# EAGLE library part LM2574HVM-3.3/NOPB (library boat_light)
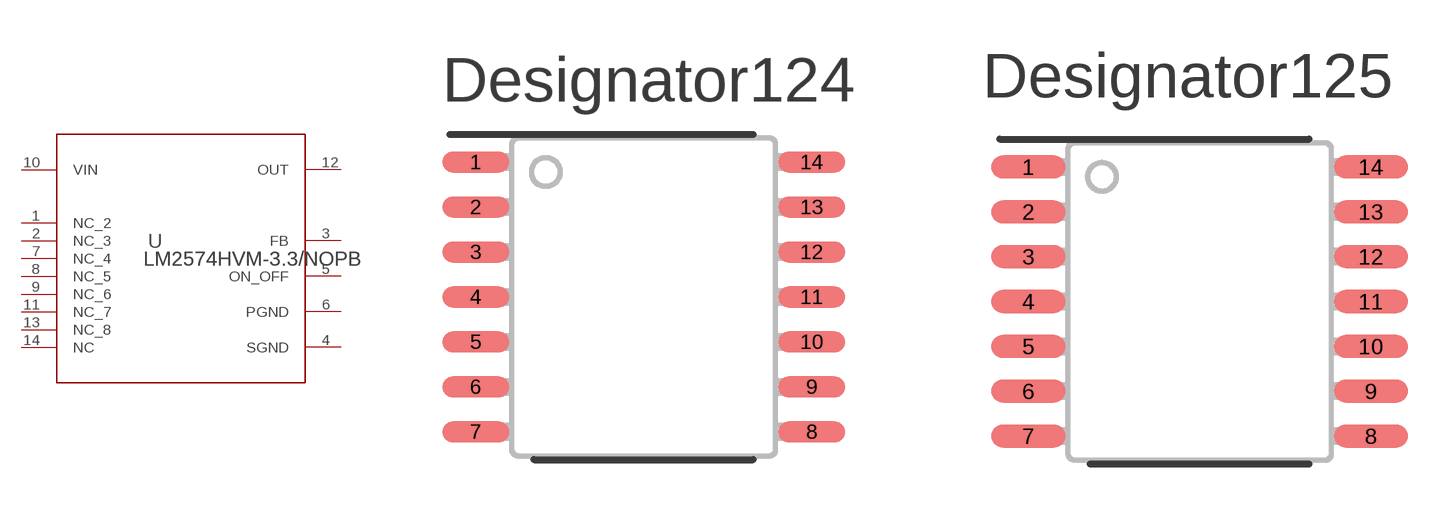
[diagram p0: symbol with the pads of NPA0014B_N; footprints NPA0014B_N, NPA0014B_M]

Designator prefix U

## LM2574HVM-3.3/NOPB (COPYRIGHT: Copyright (C) 2022 Ultra Librarian. All rights reserved.; DIGI-KEY_PART_NUMBER_1: LM2574HVM-3.3/NOPB-ND; DIGI-KEY_PART_NUMBER_2: 2156-LM2574HVM-3.3/NOPB-ND; MANUFACTURER_PART_NUMBER: LM2574HVM-3.3/NOPB; MFR_NAME: Texas Instruments; REFDES: RefDes; TYPE: TYPE)  [NPA0014B_N]
1  NC_2  pas
2  NC_3  pas
3  FB  in
4  SGND  pwr
5  ON_OFF  in
6  PGND  pwr
7  NC_4  pas
8  NC_5  pas
9  NC_6  pas
10  VIN  pwr
11  NC_7  pas
12  OUT  pwr
13  NC_8  pas
14  NC  pas

## LM2574HVM-3.3/NOPBNPA0014B_M (COPYRIGHT: Copyright (C) 2022 Ultra Librarian. All rights reserved.; DIGI-KEY_PART_NUMBER_1: LM2574HVM-3.3/NOPB-ND; DIGI-KEY_PART_NUMBER_2: 2156-LM2574HVM-3.3/NOPB-ND; MANUFACTURER_PART_NUMBER: LM2574HVM-3.3/NOPB; MFR_NAME: Texas Instruments; REFDES: RefDes; TYPE: TYPE)  [NPA0014B_M]
Pads as for NPA0014B_N

## LM2574HVM-3.3/NOPBNPA0014B_L (COPYRIGHT: Copyright (C) 2022 Ultra Librarian. All rights reserved.; DIGI-KEY_PART_NUMBER_1: LM2574HVM-3.3/NOPB-ND; DIGI-KEY_PART_NUMBER_2: 2156-LM2574HVM-3.3/NOPB-ND; MANUFACTURER_PART_NUMBER: LM2574HVM-3.3/NOPB; MFR_NAME: Texas Instruments; REFDES: RefDes; TYPE: TYPE)  [NPA0014B_L]
Pads as for NPA0014B_N

## Footprint NPA0014B_N (pad centres in mm)
smd 1.9 x 0.6: 1 -4.75,3.81; 2 -4.75,2.54; 3 -4.75,1.27; 4 -4.75,0; 5 -4.75,-1.27; 6 -4.75,-2.54; 7 -4.75,-3.81; 8 4.75,-3.81; 9 4.75,-2.54; 10 4.75,-1.27; 11 4.75,0; 12 4.75,1.27; 13 4.75,2.54; 14 4.75,3.81

## Footprint NPA0014B_M (pad centres in mm)
smd 2.1 x 0.65: 1 -4.85,3.81; 2 -4.85,2.54; 3 -4.85,1.27; 4 -4.85,0; 5 -4.85,-1.27; 6 -4.85,-2.54; 7 -4.85,-3.81; 8 4.85,-3.81; 9 4.85,-2.54; 10 4.85,-1.27; 11 4.85,0; 12 4.85,1.27; 13 4.85,2.54; 14 4.85,3.81

## Footprint NPA0014B_L (pad centres in mm)
smd 1.7 x 0.55: 1 -4.65,3.81; 2 -4.65,2.54; 3 -4.65,1.27; 4 -4.65,0; 5 -4.65,-1.27; 6 -4.65,-2.54; 7 -4.65,-3.81; 8 4.65,-3.81; 9 4.65,-2.54; 10 4.65,-1.27; 11 4.65,0; 12 4.65,1.27; 13 4.65,2.54; 14 4.65,3.81